# Altium schematic symbol library OKY3502-4.SchLib: 1 symbol
Pins are listed as number, name and electrical type; pins without a type are passive.

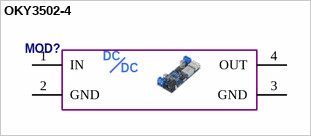
[diagram p0: symbol OKY3502-4]

## OKY3502-4
designator MOD?  (value not drawn)
pins: 1 IN, 2 GND, 3 GND, 4 OUT
text: DC